# EAGLE library part 8XC66X (library philips_gaui)
CMOS single-chip 8-bit Microcontroller
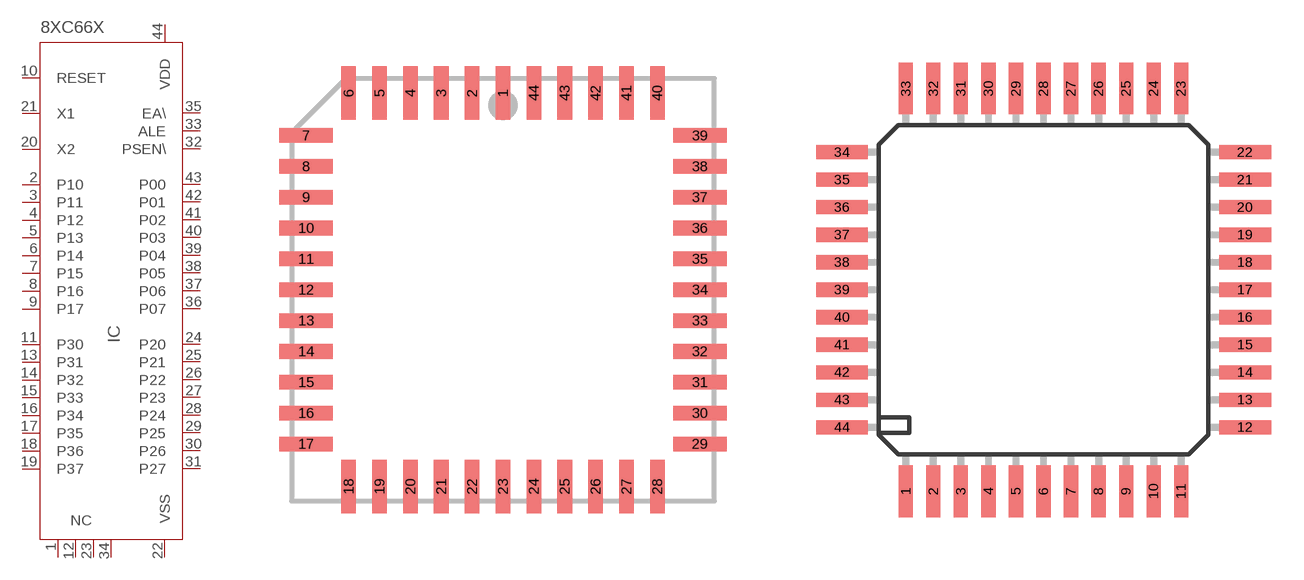
[diagram p0: symbol with the pads of PLCC44S; footprints PLCC44S, CQFP-44]

Designator prefix IC

## 8XC66X0A, 8XC66X3A  [PLCC44S]
1  NC
2  P10
3  P11
4  P12
5  P13
6  P14
7  P15
8  P16
9  P17
10  RESET
11  P30
12  NC
13  P31
14  P32
15  P33
16  P34
17  P35
18  P36
19  P37
20  X2  out
21  X1  in
22  VSS  pwr
23  NC
24  P20
25  P21
26  P22
27  P23
28  P24
29  P25
30  P26
31  P27
32  PSEN\  out
33  ALE  out
34  NC
35  EA\  in
36  P07
37  P06
38  P05
39  P04
40  P03
41  P02
42  P01
43  P00
44  VDD  pwr

## 8XC66XD  [CQFP-44]
1  P15
2  P16
3  P17
4  RESET
5  P30
6  NC
7  P31
8  P32
9  P33
10  P34
11  P35
12  P36
13  P37
14  X2  out
15  X1  in
16  VSS  pwr
17  NC
18  P20
19  P21
20  P22
21  P23
22  P24
23  P25
24  P26
25  P27
26  PSEN\  out
27  ALE  out
28  NC
29  EA\  in
30  P07
31  P06
32  P05
33  P04
34  P03
35  P02
36  P01
37  P00
38  VDD  pwr
39  NC
40  P10
41  P11
42  P12
43  P13
44  P14

## Footprint PLCC44S (pad centres in mm)
PLASTIC LEADED CHIP CARRIER square
smd 0.6 x 2.2: 1 0,8.1; 2 -1.27,8.1; 3 -2.54,8.1; 4 -3.81,8.1; 5 -5.08,8.1; 6 -6.35,8.1; 18 -6.35,-8.1; 19 -5.08,-8.1; 20 -3.81,-8.1; 21 -2.54,-8.1; 22 -1.27,-8.1; 23 0,-8.1; 24 1.27,-8.1; 25 2.54,-8.1; 26 3.81,-8.1; 27 5.08,-8.1; 28 6.35,-8.1; 40 6.35,8.1; 41 5.08,8.1; 42 3.81,8.1; 43 2.54,8.1; 44 1.27,8.1
smd 2.2 x 0.6: 7 -8.1,6.35; 8 -8.1,5.08; 9 -8.1,3.81; 10 -8.1,2.54; 11 -8.1,1.27; 12 -8.1,0; 13 -8.1,-1.27; 14 -8.1,-2.54; 15 -8.1,-3.81; 16 -8.1,-5.08; 17 -8.1,-6.35; 29 8.1,-6.35; 30 8.1,-5.08; 31 8.1,-3.81; 32 8.1,-2.54; 33 8.1,-1.27; 34 8.1,0; 35 8.1,1.27; 36 8.1,2.54; 37 8.1,3.81; 38 8.1,5.08; 39 8.1,6.35

## Footprint CQFP-44 (pad centres in mm)
CERAMIC QUAD FLAT PACK
smd 0.65 x 2.4: 1 -6.35,-9.3; 2 -5.08,-9.3; 3 -3.81,-9.3; 4 -2.54,-9.3; 5 -1.27,-9.3; 6 0,-9.3; 7 1.27,-9.3; 8 2.54,-9.3; 9 3.81,-9.3; 10 5.08,-9.3; 11 6.35,-9.3; 23 6.35,9.3; 24 5.08,9.3; 25 3.81,9.3; 26 2.54,9.3; 27 1.27,9.3; 28 0,9.3; 29 -1.27,9.3; 30 -2.54,9.3; 31 -3.81,9.3; 32 -5.08,9.3; 33 -6.35,9.3
smd 2.4 x 0.65: 12 9.3,-6.35; 13 9.3,-5.08; 14 9.3,-3.81; 15 9.3,-2.54; 16 9.3,-1.27; 17 9.3,0; 18 9.3,1.27; 19 9.3,2.54; 20 9.3,3.81; 21 9.3,5.08; 22 9.3,6.35; 34 -9.3,6.35; 35 -9.3,5.08; 36 -9.3,3.81; 37 -9.3,2.54; 38 -9.3,1.27; 39 -9.3,0; 40 -9.3,-1.27; 41 -9.3,-2.54; 42 -9.3,-3.81; 43 -9.3,-5.08; 44 -9.3,-6.35